# Altium schematic symbol library TRANS-NPN-CBE.SCHLIB: 1 symbol
Pins are listed as number, name and electrical type; pins without a type are passive.

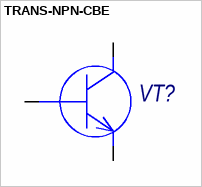
[diagram p0: symbol TRANS-NPN-CBE]

## TRANS-NPN-CBE
designator VT?
pins: 1 C, 2 B, 3 E